# Altium footprint library TSSOP_40P_M.PcbLib: 19 footprints (part 1 of 2)
Each footprint in its own frame and in the unit in brackets; x right, y up, seen from the top. Pads: shape width x height; smd on the part's side, far side on the other; paste and mask are expansions set on the pad; w line width, h text height; cw(c..) or ccw(c..) is an arc to the next point about the centre after c.
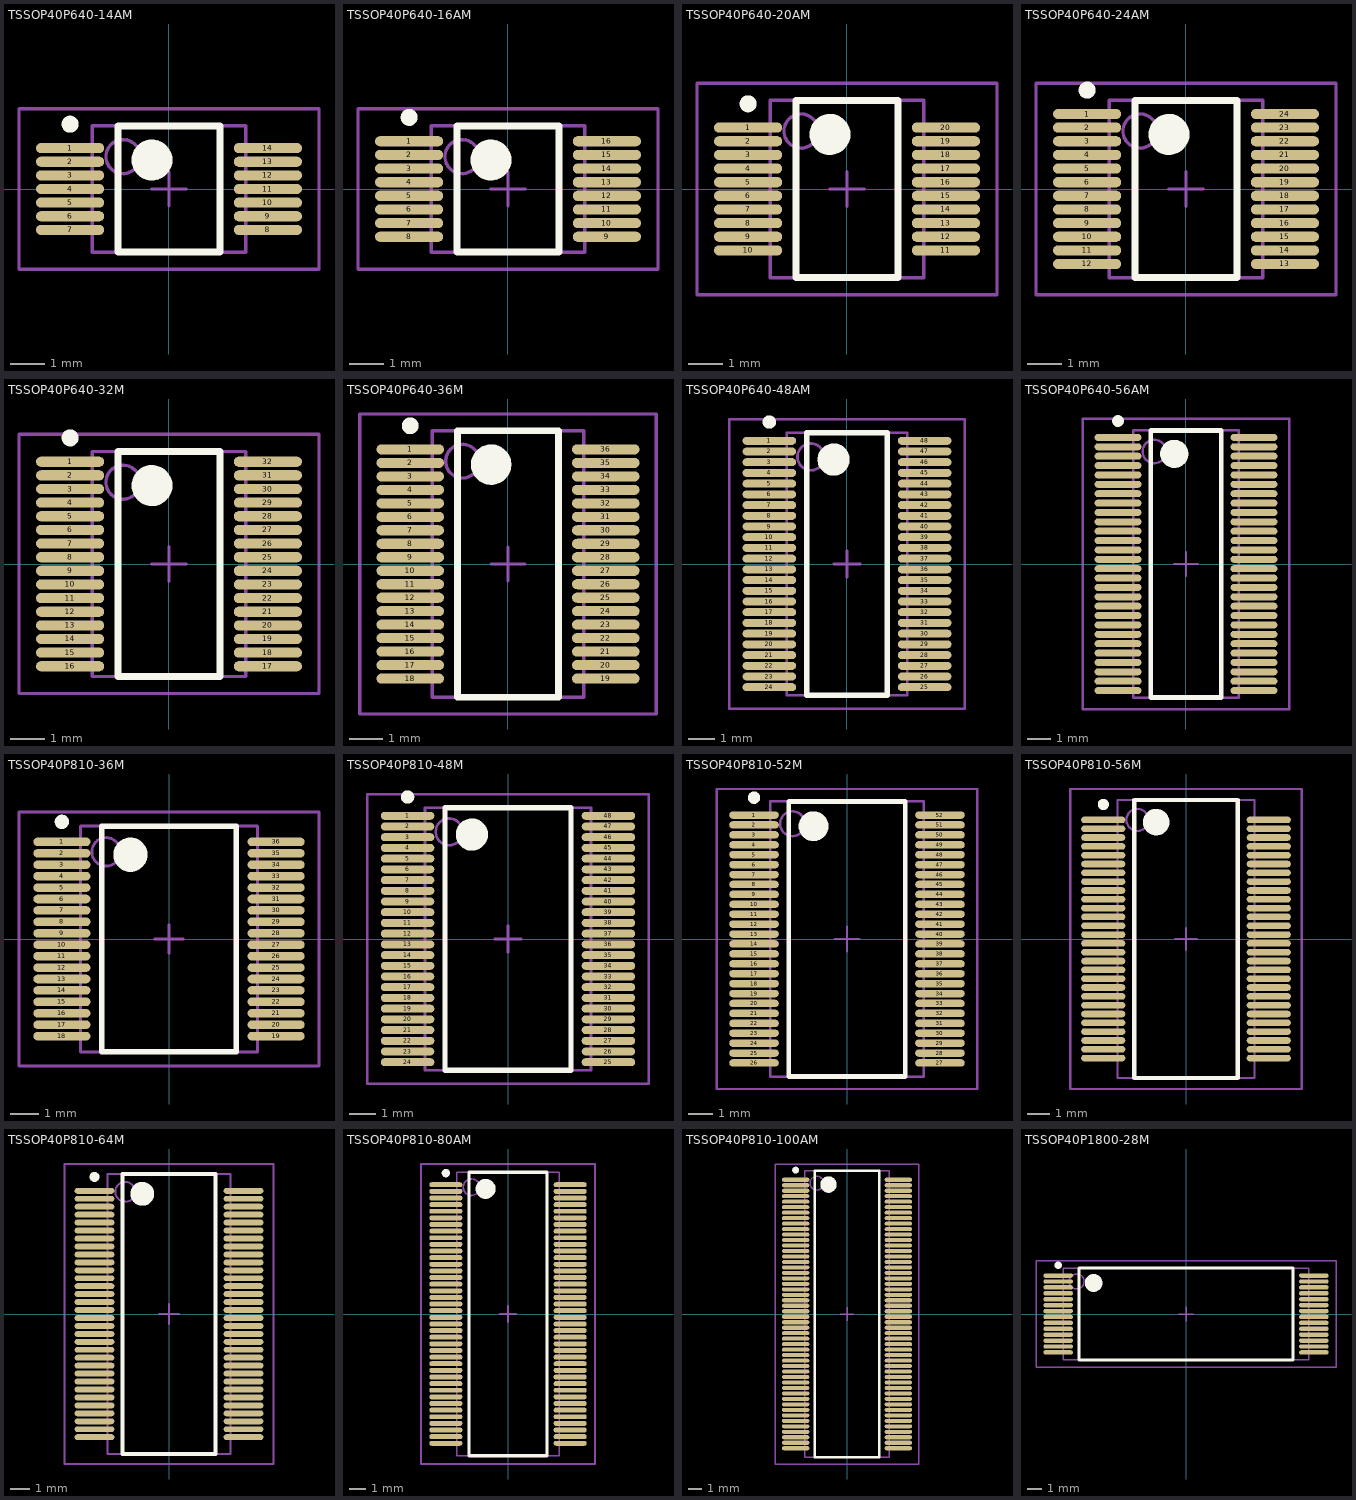
[diagram p0: the footprints below, top view; thin cyan lines are the x and y axes]

## TSSOP40P640-14AM [mm] "TSSOP, 14-Leads, Body 3.6x4.4mm, Pitch 0.4mm, IPC Low Density"
height 1.2
pads (14):
  oval 2x0.3 smd: 1(-2.9,1.2) 2(-2.9,0.8) 3(-2.9,0.4) 4(-2.9,0) 5(-2.9,-0.4) 6(-2.9,-0.8) 7(-2.9,-1.2) 8(2.9,-1.2) 9(2.9,-0.8) 10(2.9,-0.4) 11(2.9,0) 12(2.9,0.4) 13(2.9,0.8) 14(2.9,1.2)
Top Overlay:
  circle w0.6: c-0.5,0.85 r0.3
  circle w0.25: c-2.9,1.9 r0.125
  lines w0.2: -1.5,-1.85 1.5,-1.85 1.5,1.85 -1.5,1.85 -1.5,-1.85
Mechanical 13:
  circle w0.1: c-1.35,0.95 r0.5
  lines w0.1: -2.25,-1.85 2.25,-1.85 2.25,1.85 -2.25,1.85 -2.25,-1.85
Mechanical 15:
  lines w0.1: -0.5,0 0.5,0 ; 0,-0.5 0,0.5 ; -4.4,-2.35 4.4,-2.35 4.4,2.35 -4.4,2.35 -4.4,-2.35
3D body: height 1.2, standoff 0, extent -2.25,-1.85 2.25,1.85

## TSSOP40P640-16AM [mm] "TSSOP, 16-Leads, Body 3.6x4.4mm, Pitch 0.4mm, IPC Low Density"
height 1.2
pads (16):
  oval 2x0.3 smd: 1(-2.9,1.4) 2(-2.9,1) 3(-2.9,0.6) 4(-2.9,0.2) 5(-2.9,-0.2) 6(-2.9,-0.6) 7(-2.9,-1) 8(-2.9,-1.4) 9(2.9,-1.4) 10(2.9,-1) 11(2.9,-0.6) 12(2.9,-0.2) 13(2.9,0.2) 14(2.9,0.6) 15(2.9,1) 16(2.9,1.4)
Top Overlay:
  circle w0.6: c-0.5,0.85 r0.3
  circle w0.25: c-2.9,2.1 r0.125
  lines w0.2: -1.5,-1.85 1.5,-1.85 1.5,1.85 -1.5,1.85 -1.5,-1.85
Mechanical 13:
  circle w0.1: c-1.35,0.95 r0.5
  lines w0.1: -2.25,-1.85 2.25,-1.85 2.25,1.85 -2.25,1.85 -2.25,-1.85
Mechanical 15:
  lines w0.1: -0.5,0 0.5,0 ; 0,-0.5 0,0.5 ; -4.4,-2.35 4.4,-2.35 4.4,2.35 -4.4,2.35 -4.4,-2.35
3D body: height 1.2, standoff 0, extent -2.25,-1.85 2.25,1.85

## TSSOP40P640-20AM [mm] "TSSOP, 20-Leads, Body 5x4.4mm, Pitch 0.4mm, IPC Low Density"
height 1.2
pads (20):
  oval 2x0.3 smd: 1(-2.9,1.8) 2(-2.9,1.4) 3(-2.9,1) 4(-2.9,0.6) 5(-2.9,0.2) 6(-2.9,-0.2) 7(-2.9,-0.6) 8(-2.9,-1) 9(-2.9,-1.4) 10(-2.9,-1.8) 11(2.9,-1.8) 12(2.9,-1.4) 13(2.9,-1) 14(2.9,-0.6) 15(2.9,-0.2) 16(2.9,0.2) 17(2.9,0.6) 18(2.9,1) 19(2.9,1.4) 20(2.9,1.8)
Top Overlay:
  circle w0.6: c-0.5,1.6 r0.3
  circle w0.25: c-2.9,2.5 r0.125
  lines w0.2: -1.5,-2.6 1.5,-2.6 1.5,2.6 -1.5,2.6 -1.5,-2.6
Mechanical 13:
  circle w0.1: c-1.35,1.7 r0.5
  lines w0.1: -2.25,-2.6 2.25,-2.6 2.25,2.6 -2.25,2.6 -2.25,-2.6
Mechanical 15:
  lines w0.1: -0.5,0 0.5,0 ; 0,-0.5 0,0.5 ; -4.4,-3.1 4.4,-3.1 4.4,3.1 -4.4,3.1 -4.4,-3.1
3D body: height 1.2, standoff 0, extent -2.25,-2.6 2.25,2.6

## TSSOP40P640-24AM [mm] "TSSOP, 24-Leads, Body 5x4.4mm, Pitch 0.4mm, IPC Low Density"
height 1.2
pads (24):
  oval 2x0.3 smd: 1(-2.9,2.2) 2(-2.9,1.8) 3(-2.9,1.4) 4(-2.9,1) 5(-2.9,0.6) 6(-2.9,0.2) 7(-2.9,-0.2) 8(-2.9,-0.6) 9(-2.9,-1) 10(-2.9,-1.4) 11(-2.9,-1.8) 12(-2.9,-2.2) 13(2.9,-2.2) 14(2.9,-1.8) 15(2.9,-1.4) 16(2.9,-1) 17(2.9,-0.6) 18(2.9,-0.2) 19(2.9,0.2) 20(2.9,0.6) 21(2.9,1) 22(2.9,1.4) 23(2.9,1.8) 24(2.9,2.2)
Top Overlay:
  circle w0.6: c-0.5,1.6 r0.3
  circle w0.25: c-2.9,2.9 r0.125
  lines w0.2: -1.5,-2.6 1.5,-2.6 1.5,2.6 -1.5,2.6 -1.5,-2.6
Mechanical 13:
  circle w0.1: c-1.35,1.7 r0.5
  lines w0.1: -2.25,-2.6 2.25,-2.6 2.25,2.6 -2.25,2.6 -2.25,-2.6
Mechanical 15:
  lines w0.1: -0.5,0 0.5,0 ; 0,-0.5 0,0.5 ; -4.4,-3.1 4.4,-3.1 4.4,3.1 -4.4,3.1 -4.4,-3.1
3D body: height 1.2, standoff 0, extent -2.25,-2.6 2.25,2.6

## TSSOP40P640-32M [mm] "TSSOP, 32-Leads, Body 6.5x4.4mm, Pitch 0.4mm, IPC Low Density"
height 1.2
pads (32):
  oval 2x0.3 smd: 1(-2.9,3) 2(-2.9,2.6) 3(-2.9,2.2) 4(-2.9,1.8) 5(-2.9,1.4) 6(-2.9,1) 7(-2.9,0.6) 8(-2.9,0.2) 9(-2.9,-0.2) 10(-2.9,-0.6) 11(-2.9,-1) 12(-2.9,-1.4) 13(-2.9,-1.8) 14(-2.9,-2.2) 15(-2.9,-2.6) 16(-2.9,-3) 17(2.9,-3) 18(2.9,-2.6) 19(2.9,-2.2) 20(2.9,-1.8) 21(2.9,-1.4) 22(2.9,-1) 23(2.9,-0.6) 24(2.9,-0.2) 25(2.9,0.2) 26(2.9,0.6) 27(2.9,1) 28(2.9,1.4) 29(2.9,1.8) 30(2.9,2.2) 31(2.9,2.6) 32(2.9,3)
Top Overlay:
  circle w0.6: c-0.5,2.3 r0.3
  circle w0.25: c-2.9,3.7 r0.125
  lines w0.2: -1.5,-3.3 1.5,-3.3 1.5,3.3 -1.5,3.3 -1.5,-3.3
Mechanical 13:
  circle w0.1: c-1.35,2.4 r0.5
  lines w0.1: -2.25,-3.3 2.25,-3.3 2.25,3.3 -2.25,3.3 -2.25,-3.3
Mechanical 15:
  lines w0.1: -0.5,0 0.5,0 ; 0,-0.5 0,0.5 ; -4.4,-3.8 4.4,-3.8 4.4,3.8 -4.4,3.8 -4.4,-3.8
3D body: height 1.2, standoff 0, extent -2.25,-3.3 2.25,3.3

## TSSOP40P640-36M [mm] "TSSOP, 36-Leads, Body 7.8x4.4mm, Pitch 0.4mm, IPC Low Density"
height 1.2
pads (36):
  oval 2x0.3 smd: 1(-2.9,3.4) 2(-2.9,3) 3(-2.9,2.6) 4(-2.9,2.2) 5(-2.9,1.8) 6(-2.9,1.4) 7(-2.9,1) 8(-2.9,0.6) 9(-2.9,0.2) 10(-2.9,-0.2) 11(-2.9,-0.6) 12(-2.9,-1) 13(-2.9,-1.4) 14(-2.9,-1.8) 15(-2.9,-2.2) 16(-2.9,-2.6) 17(-2.9,-3) 18(-2.9,-3.4) 19(2.9,-3.4) 20(2.9,-3) 21(2.9,-2.6) 22(2.9,-2.2) 23(2.9,-1.8) 24(2.9,-1.4) 25(2.9,-1) 26(2.9,-0.6) 27(2.9,-0.2) 28(2.9,0.2) 29(2.9,0.6) 30(2.9,1) 31(2.9,1.4) 32(2.9,1.8) 33(2.9,2.2) 34(2.9,2.6) 35(2.9,3) 36(2.9,3.4)
Top Overlay:
  circle w0.6: c-0.5,2.95 r0.3
  circle w0.25: c-2.9,4.1 r0.125
  lines w0.2: -1.5,-3.95 1.5,-3.95 1.5,3.95 -1.5,3.95 -1.5,-3.95
Mechanical 13:
  circle w0.1: c-1.35,3.05 r0.5
  lines w0.1: -2.25,-3.95 2.25,-3.95 2.25,3.95 -2.25,3.95 -2.25,-3.95
Mechanical 15:
  lines w0.1: -0.5,0 0.5,0 ; 0,-0.5 0,0.5 ; -4.4,-4.45 4.4,-4.45 4.4,4.45 -4.4,4.45 -4.4,-4.45
3D body: height 1.2, standoff 0, extent -2.25,-3.95 2.25,3.95

## TSSOP40P640-48AM [mm] "TSSOP, 48-Leads, Body 9.7x4.4mm, Pitch 0.4mm, IPC Low Density"
height 1.2
pads (48):
  oval 2x0.3 smd: 1(-2.9,4.6) 2(-2.9,4.2) 3(-2.9,3.8) 4(-2.9,3.4) 5(-2.9,3) 6(-2.9,2.6) 7(-2.9,2.2) 8(-2.9,1.8) 9(-2.9,1.4) 10(-2.9,1) 11(-2.9,0.6) 12(-2.9,0.2) 13(-2.9,-0.2) 14(-2.9,-0.6) 15(-2.9,-1) 16(-2.9,-1.4) 17(-2.9,-1.8) 18(-2.9,-2.2) 19(-2.9,-2.6) 20(-2.9,-3) 21(-2.9,-3.4) 22(-2.9,-3.8) 23(-2.9,-4.2) 24(-2.9,-4.6) 25(2.9,-4.6) 26(2.9,-4.2) 27(2.9,-3.8) 28(2.9,-3.4) 29(2.9,-3) 30(2.9,-2.6) 31(2.9,-2.2) 32(2.9,-1.8) 33(2.9,-1.4) 34(2.9,-1) 35(2.9,-0.6) 36(2.9,-0.2) 37(2.9,0.2) 38(2.9,0.6) 39(2.9,1) 40(2.9,1.4) 41(2.9,1.8) 42(2.9,2.2) 43(2.9,2.6) 44(2.9,3) 45(2.9,3.4) 46(2.9,3.8) 47(2.9,4.2) 48(2.9,4.6)
Top Overlay:
  circle w0.6: c-0.5,3.9 r0.3
  circle w0.25: c-2.9,5.3 r0.125
  lines w0.2: -1.5,-4.9 1.5,-4.9 1.5,4.9 -1.5,4.9 -1.5,-4.9
Mechanical 13:
  circle w0.1: c-1.35,4 r0.5
  lines w0.1: -2.25,-4.9 2.25,-4.9 2.25,4.9 -2.25,4.9 -2.25,-4.9
Mechanical 15:
  lines w0.1: -0.5,0 0.5,0 ; 0,-0.5 0,0.5 ; -4.4,-5.4 4.4,-5.4 4.4,5.4 -4.4,5.4 -4.4,-5.4
3D body: height 1.2, standoff 0, extent -2.25,-4.9 2.25,4.9

## TSSOP40P640-56AM [mm] "TSSOP, 56-Leads, Body 11.3x4.4mm, Pitch 0.4mm, IPC Low Density"
height 1.2
pads (56):
  oval 2x0.3 smd: 1(-2.9,5.4) 2(-2.9,5) 3(-2.9,4.6) 4(-2.9,4.2) 5(-2.9,3.8) 6(-2.9,3.4) 7(-2.9,3) 8(-2.9,2.6) 9(-2.9,2.2) 10(-2.9,1.8) 11(-2.9,1.4) 12(-2.9,1) 13(-2.9,0.6) 14(-2.9,0.2) 15(-2.9,-0.2) 16(-2.9,-0.6) 17(-2.9,-1) 18(-2.9,-1.4) 19(-2.9,-1.8) 20(-2.9,-2.2) 21(-2.9,-2.6) 22(-2.9,-3) 23(-2.9,-3.4) 24(-2.9,-3.8) 25(-2.9,-4.2) 26(-2.9,-4.6) 27(-2.9,-5) 28(-2.9,-5.4) 29(2.9,-5.4) 30(2.9,-5) 31(2.9,-4.6) 32(2.9,-4.2) 33(2.9,-3.8) 34(2.9,-3.4) 35(2.9,-3) 36(2.9,-2.6) 37(2.9,-2.2) 38(2.9,-1.8) 39(2.9,-1.4) 40(2.9,-1) 41(2.9,-0.6) 42(2.9,-0.2) 43(2.9,0.2) 44(2.9,0.6) 45(2.9,1) 46(2.9,1.4) 47(2.9,1.8) 48(2.9,2.2) 49(2.9,2.6) 50(2.9,3) 51(2.9,3.4) 52(2.9,3.8) 53(2.9,4.2) 54(2.9,4.6) 55(2.9,5) 56(2.9,5.4)
Top Overlay:
  circle w0.6: c-0.5,4.7 r0.3
  circle w0.25: c-2.9,6.1 r0.125
  lines w0.2: -1.5,-5.7 1.5,-5.7 1.5,5.7 -1.5,5.7 -1.5,-5.7
Mechanical 13:
  circle w0.1: c-1.35,4.8 r0.5
  lines w0.1: -2.25,-5.7 2.25,-5.7 2.25,5.7 -2.25,5.7 -2.25,-5.7
Mechanical 15:
  lines w0.1: -0.5,0 0.5,0 ; 0,-0.5 0,0.5 ; -4.4,-6.2 4.4,-6.2 4.4,6.2 -4.4,6.2 -4.4,-6.2
3D body: height 1.2, standoff 0, extent -2.25,-5.7 2.25,5.7

## TSSOP40P810-36M [mm] "TSSOP, 36-Leads, Body 7.8x6.1mm, Pitch 0.4mm, IPC Low Density"
height 1.2
pads (36):
  oval 2x0.3 smd: 1(-3.75,3.4) 2(-3.75,3) 3(-3.75,2.6) 4(-3.75,2.2) 5(-3.75,1.8) 6(-3.75,1.4) 7(-3.75,1) 8(-3.75,0.6) 9(-3.75,0.2) 10(-3.75,-0.2) 11(-3.75,-0.6) 12(-3.75,-1) 13(-3.75,-1.4) 14(-3.75,-1.8) 15(-3.75,-2.2) 16(-3.75,-2.6) 17(-3.75,-3) 18(-3.75,-3.4) 19(3.75,-3.4) 20(3.75,-3) 21(3.75,-2.6) 22(3.75,-2.2) 23(3.75,-1.8) 24(3.75,-1.4) 25(3.75,-1) 26(3.75,-0.6) 27(3.75,-0.2) 28(3.75,0.2) 29(3.75,0.6) 30(3.75,1) 31(3.75,1.4) 32(3.75,1.8) 33(3.75,2.2) 34(3.75,2.6) 35(3.75,3) 36(3.75,3.4)
Top Overlay:
  circle w0.6: c-1.35,2.95 r0.3
  circle w0.25: c-3.75,4.1 r0.125
  lines w0.2: -2.35,-3.95 2.35,-3.95 2.35,3.95 -2.35,3.95 -2.35,-3.95
Mechanical 13:
  circle w0.1: c-2.2,3.05 r0.5
  lines w0.1: -3.1,-3.95 3.1,-3.95 3.1,3.95 -3.1,3.95 -3.1,-3.95
Mechanical 15:
  lines w0.1: -0.5,0 0.5,0 ; 0,-0.5 0,0.5 ; -5.25,-4.45 5.25,-4.45 5.25,4.45 -5.25,4.45 -5.25,-4.45
3D body: height 1.2, standoff 0, extent -3.1,-3.95 3.1,3.95

## TSSOP40P810-48M [mm] "TSSOP, 48-Leads, Body 9.7x6.1mm, Pitch 0.4mm, IPC Low Density"
height 1.2
pads (48):
  oval 2x0.3 smd: 1(-3.75,4.6) 2(-3.75,4.2) 3(-3.75,3.8) 4(-3.75,3.4) 5(-3.75,3) 6(-3.75,2.6) 7(-3.75,2.2) 8(-3.75,1.8) 9(-3.75,1.4) 10(-3.75,1) 11(-3.75,0.6) 12(-3.75,0.2) 13(-3.75,-0.2) 14(-3.75,-0.6) 15(-3.75,-1) 16(-3.75,-1.4) 17(-3.75,-1.8) 18(-3.75,-2.2) 19(-3.75,-2.6) 20(-3.75,-3) 21(-3.75,-3.4) 22(-3.75,-3.8) 23(-3.75,-4.2) 24(-3.75,-4.6) 25(3.75,-4.6) 26(3.75,-4.2) 27(3.75,-3.8) 28(3.75,-3.4) 29(3.75,-3) 30(3.75,-2.6) 31(3.75,-2.2) 32(3.75,-1.8) 33(3.75,-1.4) 34(3.75,-1) 35(3.75,-0.6) 36(3.75,-0.2) 37(3.75,0.2) 38(3.75,0.6) 39(3.75,1) 40(3.75,1.4) 41(3.75,1.8) 42(3.75,2.2) 43(3.75,2.6) 44(3.75,3) 45(3.75,3.4) 46(3.75,3.8) 47(3.75,4.2) 48(3.75,4.6)
Top Overlay:
  circle w0.6: c-1.35,3.9 r0.3
  circle w0.25: c-3.75,5.3 r0.125
  lines w0.2: -2.35,-4.9 2.35,-4.9 2.35,4.9 -2.35,4.9 -2.35,-4.9
Mechanical 13:
  circle w0.1: c-2.2,4 r0.5
  lines w0.1: -3.1,-4.9 3.1,-4.9 3.1,4.9 -3.1,4.9 -3.1,-4.9
Mechanical 15:
  lines w0.1: -0.5,0 0.5,0 ; 0,-0.5 0,0.5 ; -5.25,-5.4 5.25,-5.4 5.25,5.4 -5.25,5.4 -5.25,-5.4
3D body: height 1.2, standoff 0, extent -3.1,-4.9 3.1,4.9

## TSSOP40P810-52M [mm] "TSSOP, 52-Leads, Body 11x6.1mm, Pitch 0.4mm, IPC Low Density"
height 1.2
pads (52):
  oval 2x0.3 smd: 1(-3.75,5) 2(-3.75,4.6) 3(-3.75,4.2) 4(-3.75,3.8) 5(-3.75,3.4) 6(-3.75,3) 7(-3.75,2.6) 8(-3.75,2.2) 9(-3.75,1.8) 10(-3.75,1.4) 11(-3.75,1) 12(-3.75,0.6) 13(-3.75,0.2) 14(-3.75,-0.2) 15(-3.75,-0.6) 16(-3.75,-1) 17(-3.75,-1.4) 18(-3.75,-1.8) 19(-3.75,-2.2) 20(-3.75,-2.6) 21(-3.75,-3) 22(-3.75,-3.4) 23(-3.75,-3.8) 24(-3.75,-4.2) 25(-3.75,-4.6) 26(-3.75,-5) 27(3.75,-5) 28(3.75,-4.6) 29(3.75,-4.2) 30(3.75,-3.8) 31(3.75,-3.4) 32(3.75,-3) 33(3.75,-2.6) 34(3.75,-2.2) 35(3.75,-1.8) 36(3.75,-1.4) 37(3.75,-1) 38(3.75,-0.6) 39(3.75,-0.2) 40(3.75,0.2) 41(3.75,0.6) 42(3.75,1) 43(3.75,1.4) 44(3.75,1.8) 45(3.75,2.2) 46(3.75,2.6) 47(3.75,3) 48(3.75,3.4) 49(3.75,3.8) 50(3.75,4.2) 51(3.75,4.6) 52(3.75,5)
Top Overlay:
  circle w0.6: c-1.35,4.55 r0.3
  circle w0.25: c-3.75,5.7 r0.125
  lines w0.2: -2.35,-5.55 2.35,-5.55 2.35,5.55 -2.35,5.55 -2.35,-5.55
Mechanical 13:
  circle w0.1: c-2.2,4.65 r0.5
  lines w0.1: -3.1,-5.55 3.1,-5.55 3.1,5.55 -3.1,5.55 -3.1,-5.55
Mechanical 15:
  lines w0.1: -0.5,0 0.5,0 ; 0,-0.5 0,0.5 ; -5.25,-6.05 5.25,-6.05 5.25,6.05 -5.25,6.05 -5.25,-6.05
3D body: height 1.2, standoff 0, extent -3.1,-5.55 3.1,5.55

## TSSOP40P810-56M [mm] "TSSOP, 56-Leads, Body 12.5x6.1mm, Pitch 0.4mm, IPC Low Density"
height 1.2
pads (56):
  oval 2x0.3 smd: 1(-3.75,5.4) 2(-3.75,5) 3(-3.75,4.6) 4(-3.75,4.2) 5(-3.75,3.8) 6(-3.75,3.4) 7(-3.75,3) 8(-3.75,2.6) 9(-3.75,2.2) 10(-3.75,1.8) 11(-3.75,1.4) 12(-3.75,1) 13(-3.75,0.6) 14(-3.75,0.2) 15(-3.75,-0.2) 16(-3.75,-0.6) 17(-3.75,-1) 18(-3.75,-1.4) 19(-3.75,-1.8) 20(-3.75,-2.2) 21(-3.75,-2.6) 22(-3.75,-3) 23(-3.75,-3.4) 24(-3.75,-3.8) 25(-3.75,-4.2) 26(-3.75,-4.6) 27(-3.75,-5) 28(-3.75,-5.4) 29(3.75,-5.4) 30(3.75,-5) 31(3.75,-4.6) 32(3.75,-4.2) 33(3.75,-3.8) 34(3.75,-3.4) 35(3.75,-3) 36(3.75,-2.6) 37(3.75,-2.2) 38(3.75,-1.8) 39(3.75,-1.4) 40(3.75,-1) 41(3.75,-0.6) 42(3.75,-0.2) 43(3.75,0.2) 44(3.75,0.6) 45(3.75,1) 46(3.75,1.4) 47(3.75,1.8) 48(3.75,2.2) 49(3.75,2.6) 50(3.75,3) 51(3.75,3.4) 52(3.75,3.8) 53(3.75,4.2) 54(3.75,4.6) 55(3.75,5) 56(3.75,5.4)
Top Overlay:
  circle w0.6: c-1.35,5.3 r0.3
  circle w0.25: c-3.75,6.1 r0.125
  lines w0.2: -2.35,-6.3 2.35,-6.3 2.35,6.3 -2.35,6.3 -2.35,-6.3
Mechanical 13:
  circle w0.1: c-2.2,5.4 r0.5
  lines w0.1: -3.1,-6.3 3.1,-6.3 3.1,6.3 -3.1,6.3 -3.1,-6.3
Mechanical 15:
  lines w0.1: -0.5,0 0.5,0 ; 0,-0.5 0,0.5 ; -5.25,-6.8 5.25,-6.8 5.25,6.8 -5.25,6.8 -5.25,-6.8
3D body: height 1.2, standoff 0, extent -3.1,-6.3 3.1,6.3

## TSSOP40P810-64M [mm] "TSSOP, 64-Leads, Body 14x6.1mm, Pitch 0.4mm, IPC Low Density"
height 1.2
pads (64):
  oval 2x0.3 smd: 1(-3.75,6.2) 2(-3.75,5.8) 3(-3.75,5.4) 4(-3.75,5) 5(-3.75,4.6) 6(-3.75,4.2) 7(-3.75,3.8) 8(-3.75,3.4) 9(-3.75,3) 10(-3.75,2.6) 11(-3.75,2.2) 12(-3.75,1.8) 13(-3.75,1.4) 14(-3.75,1) 15(-3.75,0.6) 16(-3.75,0.2) 17(-3.75,-0.2) 18(-3.75,-0.6) 19(-3.75,-1) 20(-3.75,-1.4) 21(-3.75,-1.8) 22(-3.75,-2.2) 23(-3.75,-2.6) 24(-3.75,-3) 25(-3.75,-3.4) 26(-3.75,-3.8) 27(-3.75,-4.2) 28(-3.75,-4.6) 29(-3.75,-5) 30(-3.75,-5.4) 31(-3.75,-5.8) 32(-3.75,-6.2) 33(3.75,-6.2) 34(3.75,-5.8) 35(3.75,-5.4) 36(3.75,-5) 37(3.75,-4.6) 38(3.75,-4.2) 39(3.75,-3.8) 40(3.75,-3.4) 41(3.75,-3) 42(3.75,-2.6) 43(3.75,-2.2) 44(3.75,-1.8) 45(3.75,-1.4) 46(3.75,-1) 47(3.75,-0.6) 48(3.75,-0.2) 49(3.75,0.2) 50(3.75,0.6) 51(3.75,1) 52(3.75,1.4) 53(3.75,1.8) 54(3.75,2.2) 55(3.75,2.6) 56(3.75,3) 57(3.75,3.4) 58(3.75,3.8) 59(3.75,4.2) 60(3.75,4.6) 61(3.75,5) 62(3.75,5.4) 63(3.75,5.8) 64(3.75,6.2)
Top Overlay:
  circle w0.6: c-1.35,6.05 r0.3
  circle w0.25: c-3.75,6.9 r0.125
  lines w0.2: -2.35,-7.05 2.35,-7.05 2.35,7.05 -2.35,7.05 -2.35,-7.05
Mechanical 13:
  circle w0.1: c-2.2,6.15 r0.5
  lines w0.1: -3.1,-7.05 3.1,-7.05 3.1,7.05 -3.1,7.05 -3.1,-7.05
Mechanical 15:
  lines w0.1: -0.5,0 0.5,0 ; 0,-0.5 0,0.5 ; -5.25,-7.55 5.25,-7.55 5.25,7.55 -5.25,7.55 -5.25,-7.55
3D body: height 1.2, standoff 0, extent -3.1,-7.05 3.1,7.05

## TSSOP40P810-80AM [mm] "TSSOP, 80-Leads, Body 17x6.1mm, Pitch 0.4mm, IPC Low Density"
height 1.2
pads (80):
  oval 2x0.3 smd: 1(-3.75,7.8) 2(-3.75,7.4) 3(-3.75,7) 4(-3.75,6.6) 5(-3.75,6.2) 6(-3.75,5.8) 7(-3.75,5.4) 8(-3.75,5) 9(-3.75,4.6) 10(-3.75,4.2) 11(-3.75,3.8) 12(-3.75,3.4) 13(-3.75,3) 14(-3.75,2.6) 15(-3.75,2.2) 16(-3.75,1.8) 17(-3.75,1.4) 18(-3.75,1) 19(-3.75,0.6) 20(-3.75,0.2) 21(-3.75,-0.2) 22(-3.75,-0.6) 23(-3.75,-1) 24(-3.75,-1.4) 25(-3.75,-1.8) 26(-3.75,-2.2) 27(-3.75,-2.6) 28(-3.75,-3) 29(-3.75,-3.4) 30(-3.75,-3.8) 31(-3.75,-4.2) 32(-3.75,-4.6) 33(-3.75,-5) 34(-3.75,-5.4) 35(-3.75,-5.8) 36(-3.75,-6.2) 37(-3.75,-6.6) 38(-3.75,-7) 39(-3.75,-7.4) 40(-3.75,-7.8) 41(3.75,-7.8) 42(3.75,-7.4) 43(3.75,-7) 44(3.75,-6.6) 45(3.75,-6.2) 46(3.75,-5.8) 47(3.75,-5.4) 48(3.75,-5) 49(3.75,-4.6) 50(3.75,-4.2) 51(3.75,-3.8) 52(3.75,-3.4) 53(3.75,-3) 54(3.75,-2.6) 55(3.75,-2.2) 56(3.75,-1.8) 57(3.75,-1.4) 58(3.75,-1) 59(3.75,-0.6) 60(3.75,-0.2) 61(3.75,0.2) 62(3.75,0.6) 63(3.75,1) 64(3.75,1.4) 65(3.75,1.8) 66(3.75,2.2) 67(3.75,2.6) 68(3.75,3) 69(3.75,3.4) 70(3.75,3.8) 71(3.75,4.2) 72(3.75,4.6) 73(3.75,5) 74(3.75,5.4) 75(3.75,5.8) 76(3.75,6.2) 77(3.75,6.6) 78(3.75,7) 79(3.75,7.4) 80(3.75,7.8)
Top Overlay:
  circle w0.6: c-1.35,7.55 r0.3
  circle w0.25: c-3.75,8.5 r0.125
  lines w0.2: -2.35,-8.55 2.35,-8.55 2.35,8.55 -2.35,8.55 -2.35,-8.55
Mechanical 13:
  circle w0.1: c-2.2,7.65 r0.5
  lines w0.1: -3.1,-8.55 3.1,-8.55 3.1,8.55 -3.1,8.55 -3.1,-8.55
Mechanical 15:
  lines w0.1: -0.5,0 0.5,0 ; 0,-0.5 0,0.5 ; -5.25,-9.05 5.25,-9.05 5.25,9.05 -5.25,9.05 -5.25,-9.05
3D body: height 1.2, standoff 0, extent -3.1,-8.55 3.1,8.55

## TSSOP40P810-100AM [mm] "TSSOP, 100-Leads, Body 20.8x6.1mm, Pitch 0.4mm, IPC Low Density"
height 1.2
pads (100):
  oval 2x0.3 smd: 1(-3.75,9.8) 2(-3.75,9.4) 3(-3.75,9) 4(-3.75,8.6) 5(-3.75,8.2) 6(-3.75,7.8) 7(-3.75,7.4) 8(-3.75,7) 9(-3.75,6.6) 10(-3.75,6.2) 11(-3.75,5.8) 12(-3.75,5.4) 13(-3.75,5) 14(-3.75,4.6) 15(-3.75,4.2) 16(-3.75,3.8) 17(-3.75,3.4) 18(-3.75,3) 19(-3.75,2.6) 20(-3.75,2.2) 21(-3.75,1.8) 22(-3.75,1.4) 23(-3.75,1) 24(-3.75,0.6) 25(-3.75,0.2) 26(-3.75,-0.2) 27(-3.75,-0.6) 28(-3.75,-1) 29(-3.75,-1.4) 30(-3.75,-1.8) 31(-3.75,-2.2) 32(-3.75,-2.6) 33(-3.75,-3) 34(-3.75,-3.4) 35(-3.75,-3.8) 36(-3.75,-4.2) 37(-3.75,-4.6) 38(-3.75,-5) 39(-3.75,-5.4) 40(-3.75,-5.8) 41(-3.75,-6.2) 42(-3.75,-6.6) 43(-3.75,-7) 44(-3.75,-7.4) 45(-3.75,-7.8) 46(-3.75,-8.2) 47(-3.75,-8.6) 48(-3.75,-9) 49(-3.75,-9.4) 50(-3.75,-9.8) 51(3.75,-9.8) 52(3.75,-9.4) 53(3.75,-9) 54(3.75,-8.6) 55(3.75,-8.2) 56(3.75,-7.8) 57(3.75,-7.4) 58(3.75,-7) 59(3.75,-6.6) 60(3.75,-6.2) 61(3.75,-5.8) 62(3.75,-5.4) 63(3.75,-5) 64(3.75,-4.6) 65(3.75,-4.2) 66(3.75,-3.8) 67(3.75,-3.4) 68(3.75,-3) 69(3.75,-2.6) 70(3.75,-2.2) 71(3.75,-1.8) 72(3.75,-1.4) 73(3.75,-1) 74(3.75,-0.6) 75(3.75,-0.2) 76(3.75,0.2) 77(3.75,0.6) 78(3.75,1) 79(3.75,1.4) 80(3.75,1.8) 81(3.75,2.2) 82(3.75,2.6) 83(3.75,3) 84(3.75,3.4) 85(3.75,3.8) 86(3.75,4.2) 87(3.75,4.6) 88(3.75,5) 89(3.75,5.4) 90(3.75,5.8) 91(3.75,6.2) 92(3.75,6.6) 93(3.75,7) 94(3.75,7.4) 95(3.75,7.8) 96(3.75,8.2) 97(3.75,8.6) 98(3.75,9) 99(3.75,9.4) 100(3.75,9.8)
Top Overlay:
  circle w0.6: c-1.35,9.45 r0.3
  circle w0.25: c-3.75,10.5 r0.125
  lines w0.2: -2.35,-10.45 2.35,-10.45 2.35,10.45 -2.35,10.45 -2.35,-10.45
Mechanical 13:
  circle w0.1: c-2.2,9.55 r0.5
  lines w0.1: -3.1,-10.45 3.1,-10.45 3.1,10.45 -3.1,10.45 -3.1,-10.45
Mechanical 15:
  lines w0.1: -0.5,0 0.5,0 ; 0,-0.5 0,0.5 ; -5.25,-10.95 5.25,-10.95 5.25,10.95 -5.25,10.95 -5.25,-10.95
3D body: height 1.2, standoff 0, extent -3.1,-10.45 3.1,10.45

## TSSOP40P1800-28M [mm] "TSSOP, 28-Leads, Body 6x16.4mm, Pitch 0.4mm, IPC Low Density"
height 1.27
pads (28):
  oval 2x0.3 smd: 1(-8.65,2.6) 2(-8.65,2.2) 3(-8.65,1.8) 4(-8.65,1.4) 5(-8.65,1) 6(-8.65,0.6) 7(-8.65,0.2) 8(-8.65,-0.2) 9(-8.65,-0.6) 10(-8.65,-1) 11(-8.65,-1.4) 12(-8.65,-1.8) 13(-8.65,-2.2) 14(-8.65,-2.6) 15(8.65,-2.6) 16(8.65,-2.2) 17(8.65,-1.8) 18(8.65,-1.4) 19(8.65,-1) 20(8.65,-0.6) 21(8.65,-0.2) 22(8.65,0.2) 23(8.65,0.6) 24(8.65,1) 25(8.65,1.4) 26(8.65,1.8) 27(8.65,2.2) 28(8.65,2.6)
Top Overlay:
  circle w0.6: c-6.25,2.1 r0.3
  circle w0.25: c-8.65,3.3 r0.125
  lines w0.2: -7.25,-3.1 7.25,-3.1 7.25,3.1 -7.25,3.1 -7.25,-3.1
Mechanical 13:
  circle w0.1: c-7.4,2.2 r0.5
  lines w0.1: -8.3,-3.1 8.3,-3.1 8.3,3.1 -8.3,3.1 -8.3,-3.1
Mechanical 15:
  lines w0.1: -0.5,0 0.5,0 ; 0,-0.5 0,0.5 ; -10.15,-3.6 10.15,-3.6 10.15,3.6 -10.15,3.6 -10.15,-3.6
3D body: height 1.27, standoff 0, extent -8.3,-3.1 8.3,3.1